# Altium schematic symbol library BAT60J.Schlib: 1 symbol
Pins are listed as number, name and electrical type; pins without a type are passive.

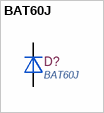
[diagram p0: symbol BAT60J]

## BAT60J
designator D?
10V 3A 580mV @ 1A SOD-323 Schottky Barrier Diodes (SBD) RoHS; LCSC Part #: C133103; ComponentLink1Description: LCSC - STMicroelectronics BAT60JFILM; ComponentLink1URL: https://lcsc.com/product-detail/Schottky-Barrier-Diodes-SBD_STMicroelectronics_BAT60JFILM_BAT60JFILM_C133103.html
footprint SOD-323
pins: 1 A, 2 K